# Altium footprint library MZBT_PcpLibrary.PcbLib: 144 footprints (part 7 of 9)
Each footprint in its own frame and in the unit in brackets; x right, y up, seen from the top. Pads: shape width x height; smd on the part's side, far side on the other; paste and mask are expansions set on the pad; w line width, h text height; cw(c..) or ccw(c..) is an arc to the next point about the centre after c.
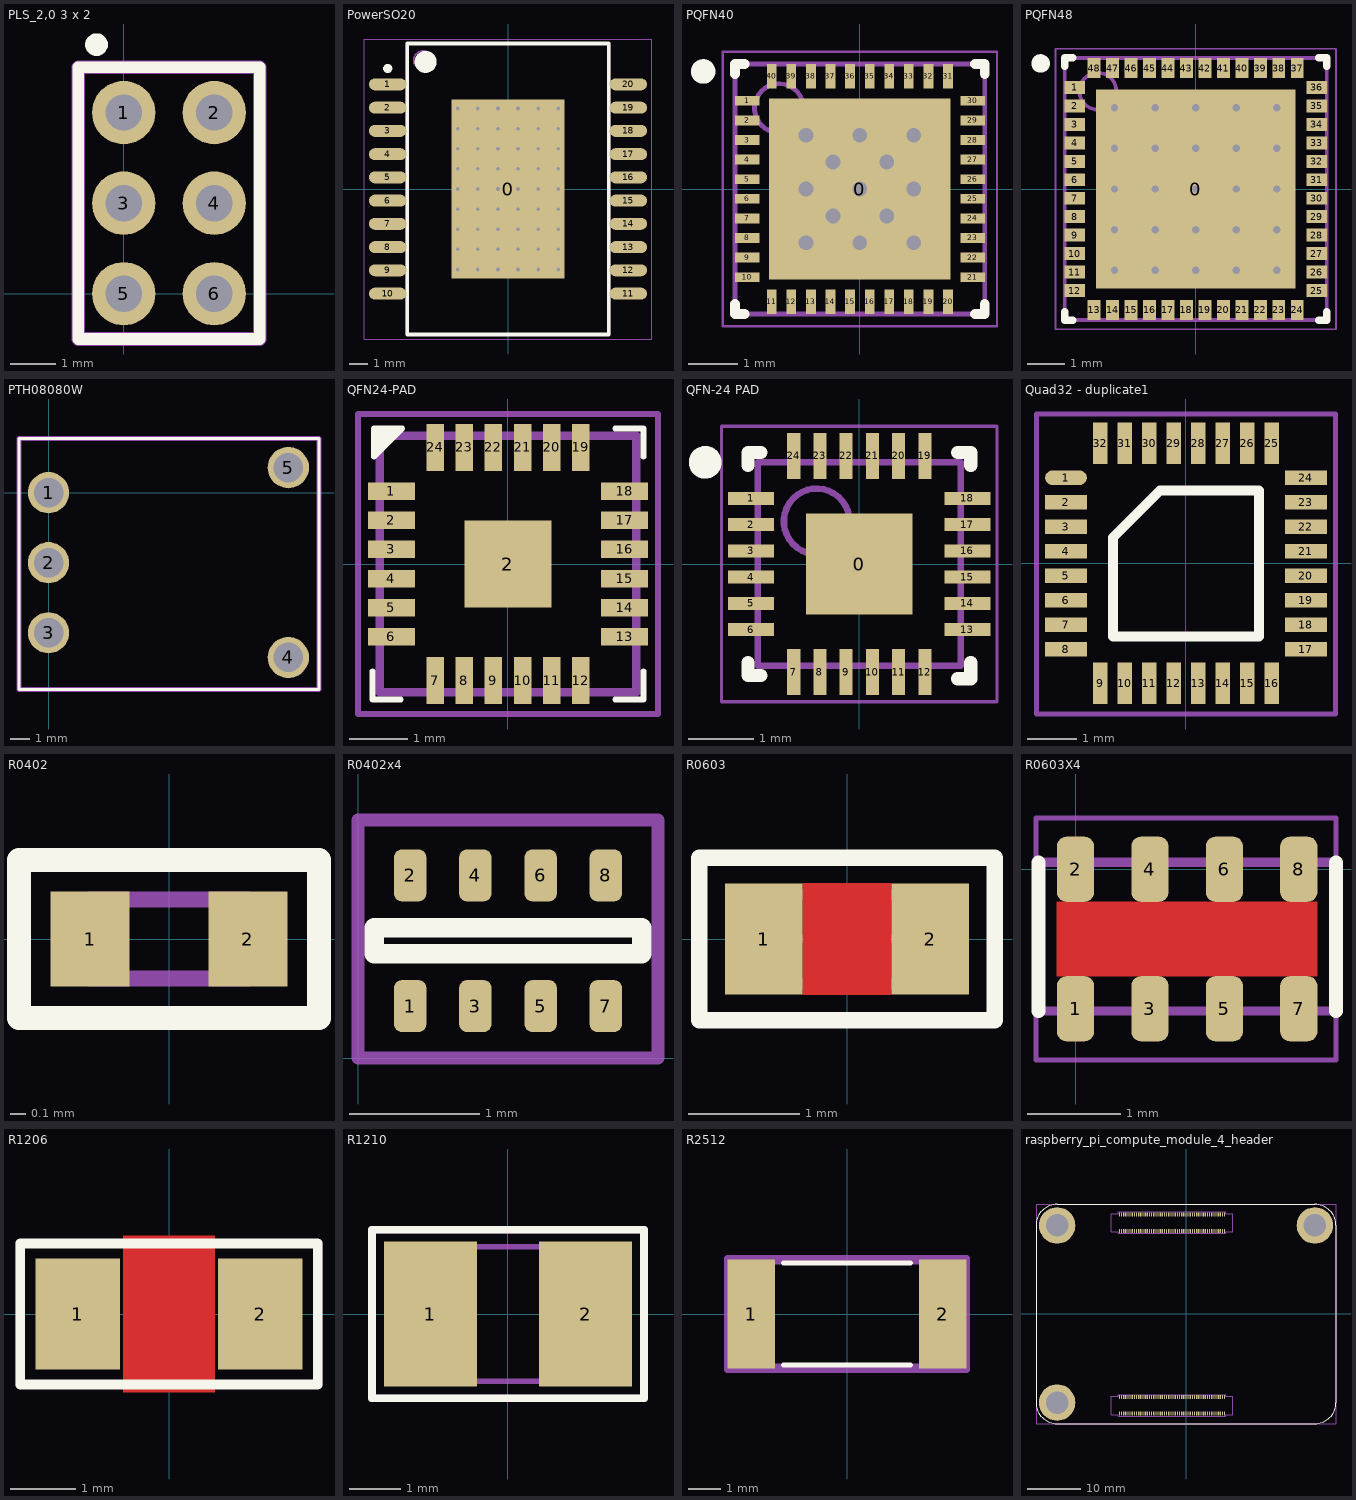
[diagram p6: the footprints below, top view; thin cyan lines are the x and y axes]

## PLS_2,0 3 x 2 [mm] "2"
pads (6):
  round 1.4 hole 0.8: 1(0,4) 2(2,4) 3(0,2) 4(2,2) 5(0,0) 6(2,0)
Top Overlay:
  circle w0.25: c-0.6,5.5 r0.125
  lines w0.254: -1,-1 -1,5 3,5 3,-1 -1,-1
Top Comment:
  text ".Comment" at 0.139,1.626 h0.6
Top Designator (Mech9):
  text ".Designator" at -0.376,2.143 h0.8
Top Courtyard:
  lines w0.3: -1,-1 -1,5 3,5 3,-1 -1,-1

## PowerSO20 [mm] "SO20, 20-Leads, Body 15,70x11,00mm, Pitch 1,27mm, Thermal Pad 9,80x6,20mm, IPC Medium Density"
height 3.6
pads (21):
  rect 6.2x9.8 smd: 0(0,0)
  oval 2.05x0.65 smd: 1(-6.575,5.715) 2(-6.575,4.445) 3(-6.575,3.175) 4(-6.575,1.905) 5(-6.575,0.635) 6(-6.575,-0.635) 7(-6.575,-1.905) 8(-6.575,-3.175) 9(-6.575,-4.445) 10(-6.575,-5.715) 11(6.575,-5.715) 12(6.575,-4.445) 13(6.575,-3.175) 14(6.575,-1.905) 15(6.575,-0.635) 16(6.575,0.635) 17(6.575,1.905) 18(6.575,3.175) 19(6.575,4.445) 20(6.575,5.715)
via 2.75,-4.4 diameter 0.5 hole 0.2
via 1.65,-4.4 diameter 0.5 hole 0.2
via 0.55,-4.4 diameter 0.5 hole 0.2
via -0.55,-4.4 diameter 0.5 hole 0.2
via -1.65,-4.4 diameter 0.5 hole 0.2
via -2.75,-4.4 diameter 0.5 hole 0.2
via 2.75,-3.3 diameter 0.5 hole 0.2
via 1.65,-3.3 diameter 0.5 hole 0.2
via 0.55,-3.3 diameter 0.5 hole 0.2
via -0.55,-3.3 diameter 0.5 hole 0.2
via -1.65,-3.3 diameter 0.5 hole 0.2
via -2.75,-3.3 diameter 0.5 hole 0.2
via 2.75,-2.2 diameter 0.5 hole 0.2
via 1.65,-2.2 diameter 0.5 hole 0.2
via 0.55,-2.2 diameter 0.5 hole 0.2
via -0.55,-2.2 diameter 0.5 hole 0.2
via -1.65,-2.2 diameter 0.5 hole 0.2
via -2.75,-2.2 diameter 0.5 hole 0.2
via 2.75,-1.1 diameter 0.5 hole 0.2
via 1.65,-1.1 diameter 0.5 hole 0.2
via 0.55,-1.1 diameter 0.5 hole 0.2
via -0.55,-1.1 diameter 0.5 hole 0.2
via -1.65,-1.1 diameter 0.5 hole 0.2
via -2.75,-1.1 diameter 0.5 hole 0.2
via 2.75,0 diameter 0.5 hole 0.2
via 1.65,0 diameter 0.5 hole 0.2
via 0.55,0 diameter 0.5 hole 0.2
via -0.55,0 diameter 0.5 hole 0.2
via -1.65,0 diameter 0.5 hole 0.2
via -2.75,0 diameter 0.5 hole 0.2
via 2.75,1.1 diameter 0.5 hole 0.2
via 1.65,1.1 diameter 0.5 hole 0.2
via 0.55,1.1 diameter 0.5 hole 0.2
via -0.55,1.1 diameter 0.5 hole 0.2
via -1.65,1.1 diameter 0.5 hole 0.2
via -2.75,1.1 diameter 0.5 hole 0.2
via 2.75,2.2 diameter 0.5 hole 0.2
via 1.65,2.2 diameter 0.5 hole 0.2
via 0.55,2.2 diameter 0.5 hole 0.2
via -0.55,2.2 diameter 0.5 hole 0.2
via -1.65,2.2 diameter 0.5 hole 0.2
via -2.75,2.2 diameter 0.5 hole 0.2
via 2.75,3.3 diameter 0.5 hole 0.2
via 1.65,3.3 diameter 0.5 hole 0.2
via 0.55,3.3 diameter 0.5 hole 0.2
via -0.55,3.3 diameter 0.5 hole 0.2
via -1.65,3.3 diameter 0.5 hole 0.2
via -2.75,3.3 diameter 0.5 hole 0.2
via 2.75,4.4 diameter 0.5 hole 0.2
via 1.65,4.4 diameter 0.5 hole 0.2
via 0.55,4.4 diameter 0.5 hole 0.2
via -0.55,4.4 diameter 0.5 hole 0.2
via -1.65,4.4 diameter 0.5 hole 0.2
via -2.75,4.4 diameter 0.5 hole 0.2
Top Overlay:
  circle w0.6: c-4.5,6.95 r0.3
  circle w0.25: c-6.575,6.59 r0.125
  lines w0.2: -5.5,-7.95 5.5,-7.95 5.5,7.95 -5.5,7.95 -5.5,-7.95
Top 3D Body (Mech13):
  circle w0.1: c-4.65,7.05 r0.5
  lines w0.1: -5.55,-7.95 5.55,-7.95 5.55,7.95 -5.55,7.95 -5.55,-7.95
Top Courtyard:
  lines w0.05: -7.85,-8.2 7.85,-8.2 7.85,8.2 -7.85,8.2 -7.85,-8.2
  lines w0.1: -0.5,0 0.5,0 ; 0,-0.5 0,0.5
3D body "User Library-PowerSO20.STEP": height 3.6, standoff 0, extent -7.2,-8 7.2,8

## PQFN40 [mm] "PQFN, 40-Leads, Body 5,00x5,00mm, Pitch 0,40mm, Thermal Pad 3,70x3,70mm, IPC Medium Density"
height 0.8
pads (41):
  rect 3.7x3.7 smd: 0(0,0)
  rect 0.5x0.2 smd: 1(-2.3,1.8) 2(-2.3,1.4) 3(-2.3,1) 4(-2.3,0.6) 5(-2.3,0.2) 6(-2.3,-0.2) 7(-2.3,-0.6) 8(-2.3,-1) 9(-2.3,-1.4) 10(-2.3,-1.8) 21(2.3,-1.8) 22(2.3,-1.4) 23(2.3,-1) 24(2.3,-0.6) 25(2.3,-0.2) 26(2.3,0.2) 27(2.3,0.6) 28(2.3,1) 29(2.3,1.4) 30(2.3,1.8)
  rect 0.2x0.5 smd: 11(-1.8,-2.3) 12(-1.4,-2.3) 13(-1,-2.3) 14(-0.6,-2.3) 15(-0.2,-2.3) 16(0.2,-2.3) 17(0.6,-2.3) 18(1,-2.3) 19(1.4,-2.3) 20(1.8,-2.3) 31(1.8,2.3) 32(1.4,2.3) 33(1,2.3) 34(0.6,2.3) 35(0.2,2.3) 36(-0.2,2.3) 37(-0.6,2.3) 38(-1,2.3) 39(-1.4,2.3) 40(-1.8,2.3)
via 1.1,-1.1 diameter 0.6 hole 0.3
via 0,-1.1 diameter 0.6 hole 0.3
via -1.1,-1.1 diameter 0.6 hole 0.3
via 1.1,0 diameter 0.6 hole 0.3
via 0,0 diameter 0.6 hole 0.3
via -1.1,0 diameter 0.6 hole 0.3
via 1.1,1.1 diameter 0.6 hole 0.3
via 0,1.1 diameter 0.6 hole 0.3
via -1.1,1.1 diameter 0.6 hole 0.3
via -0.55,0.55 diameter 0.6 hole 0.3
via 0.55,0.55 diameter 0.6 hole 0.3
via 0.55,-0.55 diameter 0.6 hole 0.3
via -0.55,-0.55 diameter 0.6 hole 0.3
Top Overlay:
  circle w0.25: c-3.2,2.4 r0.125
  lines w0.2: -2.55,-2.35 -2.55,-2.55 -2.35,-2.55 ; -2.55,2.35 -2.55,2.55 -2.35,2.55 ; 2.35,-2.55 2.55,-2.55 2.55,-2.35 ; 2.35,2.55 2.55,2.55 2.55,2.35
Top Comment:
  text ".Comment" at -2.189,-0.952 h1.52
Top Designator (Mech9):
  text ".Designator" at -2.972,0.28 h1.52
Top 3D Body (Mech13):
  circle w0.1: c-1.65,1.65 r0.5
  lines w0.1: -2.55,-2.55 2.55,-2.55 2.55,2.55 -2.55,2.55 -2.55,-2.55
Top Courtyard:
  lines w0.05: -2.8,-2.8 2.8,-2.8 2.8,2.8 -2.8,2.8 -2.8,-2.8
  lines w0.1: -0.5,0 0.5,0 ; 0,-0.5 0,0.5
3D body: height 0.8, standoff 0, extent -2.55,-2.55 2.55,2.55

## PQFN48 [mm] "PQFN, 48-Leads, Body 7,00x7,00mm, Pitch 0,50mm, Thermal Pad 5,40x5,40mm, IPC Medium Density"
height 0.8
pads (49):
  rect 5.4x5.4 smd: 0(0,0)
  rect 0.55x0.35 smd: 1(-3.275,2.75) 2(-3.275,2.25) 3(-3.275,1.75) 4(-3.275,1.25) 5(-3.275,0.75) 6(-3.275,0.25) 7(-3.275,-0.25) 8(-3.275,-0.75) 9(-3.275,-1.25) 10(-3.275,-1.75) 11(-3.275,-2.25) 12(-3.275,-2.75) 25(3.275,-2.75) 26(3.275,-2.25) 27(3.275,-1.75) 28(3.275,-1.25) 29(3.275,-0.75) 30(3.275,-0.25) 31(3.275,0.25) 32(3.275,0.75) 33(3.275,1.25) 34(3.275,1.75) 35(3.275,2.25) 36(3.275,2.75)
  rect 0.35x0.55 smd: 13(-2.75,-3.275) 14(-2.25,-3.275) 15(-1.75,-3.275) 16(-1.25,-3.275) 17(-0.75,-3.275) 18(-0.25,-3.275) 19(0.25,-3.275) 20(0.75,-3.275) 21(1.25,-3.275) 22(1.75,-3.275) 23(2.25,-3.275) 24(2.75,-3.275) 37(2.75,3.275) 38(2.25,3.275) 39(1.75,3.275) 40(1.25,3.275) 41(0.75,3.275) 42(0.25,3.275) 43(-0.25,3.275) 44(-0.75,3.275) 45(-1.25,3.275) 46(-1.75,3.275) 47(-2.25,3.275) 48(-2.75,3.275)
via -2.2,2.2 diameter 0.5 hole 0.2
via -1.1,2.2 diameter 0.5 hole 0.2
via 0,2.2 diameter 0.5 hole 0.2
via 1.1,2.2 diameter 0.5 hole 0.2
via 2.2,2.2 diameter 0.5 hole 0.2
via -2.2,1.1 diameter 0.5 hole 0.2
via -1.1,1.1 diameter 0.5 hole 0.2
via 0,1.1 diameter 0.5 hole 0.2
via 1.1,1.1 diameter 0.5 hole 0.2
via 2.2,1.1 diameter 0.5 hole 0.2
via -2.2,0 diameter 0.5 hole 0.2
via -1.1,0 diameter 0.5 hole 0.2
via 0,0 diameter 0.5 hole 0.2
via 1.1,0 diameter 0.5 hole 0.2
via 2.2,0 diameter 0.5 hole 0.2
via -2.2,-1.1 diameter 0.5 hole 0.2
via -1.1,-1.1 diameter 0.5 hole 0.2
via 0,-1.1 diameter 0.5 hole 0.2
via 1.1,-1.1 diameter 0.5 hole 0.2
via 2.2,-1.1 diameter 0.5 hole 0.2
via -2.2,-2.2 diameter 0.5 hole 0.2
via -1.1,-2.2 diameter 0.5 hole 0.2
via 0,-2.2 diameter 0.5 hole 0.2
via 1.1,-2.2 diameter 0.5 hole 0.2
via 2.2,-2.2 diameter 0.5 hole 0.2
Top Overlay:
  circle w0.25: c-4.2,3.4 r0.125
  lines w0.2: -3.55,-3.325 -3.55,-3.55 -3.325,-3.55 ; -3.55,3.325 -3.55,3.55 -3.325,3.55 ; 3.325,-3.55 3.55,-3.55 3.55,-3.325 ; 3.325,3.55 3.55,3.55 3.55,3.325
Top Comment:
  text ".Comment" at -2.189,-0.952 h1.52
Top Designator (Mech9):
  text ".Designator" at -2.972,0.28 h1.52
Top 3D Body (Mech13):
  circle w0.1: c-2.65,2.65 r0.5
  lines w0.1: -3.55,-3.55 -3.55,3.55 3.55,3.55 3.55,-3.55 -3.55,-3.55
Top Courtyard:
  lines w0.05: -3.8,-3.8 -3.8,3.8 3.8,3.8 3.8,-3.8 -3.8,-3.8
  lines w0.1: -0.5,0 0.5,0 ; 0,-0.5 0,0.5
3D body: height 0.8, standoff 0, extent -3.55,-3.55 3.55,3.55

## PTH08080W [mm]
pads (5):
  round 2.1 hole 1.5 mask+0: 1(0,0) 2(0,-3.56) 3(0,-7.12) 4(12.19,-8.375) 5(12.19,1.275)
Top Overlay:
  lines w0.15: -1.5,-10 13.75,-10 13.75,2.75 -1.5,2.75 -1.5,-10
Top Comment:
  text ".Comment" at 4.111,-4.452 h1.52
Top Designator (Mech9):
  text ".Designator" at 3.683,-3.228 h1.52
Top Component Outline:
  lines w0.254: -1.5,-10 -1.5,2.75 13.75,2.75 13.75,-10 -1.5,-10
Top Courtyard:
  lines w0.05: -1.5,-10 -1.5,2.75 13.75,2.75 13.75,-10 -1.5,-10
3D body "PTH08080W.STEP": height 8.2, standoff -3.53, extent -1.59,-9.925 13.65,2.775

## QFN24-PAD [mm] "QFN 24Pin"
pads (25):
  rect 0.8x0.3 smd: 1(-2,1.25) 2(-2,0.75) 3(-2,0.25) 4(-2,-0.25) 5(-2,-0.75) 6(-2,-1.25) 13(2,-1.25) 14(2,-0.75) 15(2,-0.25) 16(2,0.25) 17(2,0.75) 18(2,1.25)
  rect 1.5x1.5 smd: 2(0,0)
  rect 0.3x0.8 smd: 7(-1.25,-2) 8(-0.75,-2) 9(-0.25,-2) 10(0.25,-2) 11(0.75,-2) 12(1.25,-2) 19(1.25,2) 20(0.75,2) 21(0.25,2) 22(-0.25,2) 23(-0.75,2) 24(-1.25,2)
Top Overlay:
  region: -2.3,2.325 -1.815,2.325 -2.3,1.84
  lines w0.1: -2.325,-1.84 -2.325,-2.325 -1.84,-2.325 ; 1.84,-2.325 2.325,-2.325 2.325,-1.84 ; 1.84,2.325 2.325,2.325 2.325,1.84 ; -2.3,1.84 -1.815,2.325 -2.3,2.325 -2.3,1.84
Top Court:
  lines w0.15: -2.2,-2.2 2.2,-2.2 2.2,2.2 -2.2,2.2 -2.2,-2.2
Top Comment:
  text ".Comment" at -0.861,-0.374 h0.6
Top Designator (Mech9):
  text ".Designator" at -1.376,0.143 h0.8
Top Courtyard:
  lines w0.102: -2.575,-2.575 2.575,-2.575 2.575,2.575 -2.575,2.575 -2.575,-2.575
3D body "User Library-QFN24_4x4x0_75_p0_5.STEP": height 0.75, standoff 0, extent -2.002,-2.002 2.002,2.002

## QFN-24 PAD [mm] "QFN, 24-Leads, Body 3,00x3,00mm, Pitch 0,40mm, Thermal Pad 1,62x1,54mm"
height 1.05
pads (25):
  rect 1.62x1.54 smd: 0(0,0)
  rect 0.7x0.2 smd: 1(-1.65,1) 2(-1.65,0.6) 3(-1.65,0.2) 4(-1.65,-0.2) 5(-1.65,-0.6) 6(-1.65,-1) 13(1.65,-1) 14(1.65,-0.6) 15(1.65,-0.2) 16(1.65,0.2) 17(1.65,0.6) 18(1.65,1)
  rect 0.2x0.7 smd: 7(-1,-1.65) 8(-0.6,-1.65) 9(-0.2,-1.65) 10(0.2,-1.65) 11(0.6,-1.65) 12(1,-1.65) 19(1,1.65) 20(0.6,1.65) 21(0.2,1.65) 22(-0.2,1.65) 23(-0.6,1.65) 24(-1,1.65)
Top Overlay:
  circle w0.25: c-2.35,1.55 r0.125
  lines w0.2: -1.7,-1.5 -1.7,-1.7 -1.5,-1.7 ; -1.7,1.5 -1.7,1.7 -1.5,1.7 ; 1.5,-1.75 1.7,-1.75 ; 1.5,1.7 1.7,1.7 1.7,1.5 ; 1.7,-1.7 1.7,-1.5
Top Comment:
  text ".Comment" at -0.861,-0.374 h0.6
Top Designator (Mech9):
  text ".Designator" at -1.376,0.143 h0.8
Top 3D Body (Mech13):
  circle w0.1: c-0.65,0.65 r0.5
  lines w0.1: -1.55,-1.55 -1.55,1.55 1.55,1.55 1.55,-1.55 -1.55,-1.55
Top Courtyard:
  lines w0.05: -2.1,-2.1 -2.1,2.1 2.1,2.1 2.1,-2.1 -2.1,-2.1
  lines w0.1: -0.5,0 0.5,0 ; 0,-0.5 0,0.5
3D body: height 1.05, standoff 0, extent -1.55,-1.55 1.55,1.55

## Quad32 - duplicate1 [mm]
pads (32):
  oval 0.85x0.3 smd: 1(-2.45,1.75)
  rect 0.85x0.3 smd: 2(-2.45,1.25) 3(-2.45,0.75) 4(-2.45,0.25) 5(-2.45,-0.25) 6(-2.45,-0.75) 7(-2.45,-1.25) 8(-2.45,-1.75) 17(2.45,-1.75) 18(2.45,-1.25) 19(2.45,-0.75) 20(2.45,-0.25) 21(2.45,0.25) 22(2.45,0.75) 23(2.45,1.25) 24(2.45,1.75)
  rect 0.3x0.85 smd: 9(-1.75,-2.45) 10(-1.25,-2.45) 11(-0.75,-2.45) 12(-0.25,-2.45) 13(0.25,-2.45) 14(0.75,-2.45) 15(1.25,-2.45) 16(1.75,-2.45) 25(1.75,2.45) 26(1.25,2.45) 27(0.75,2.45) 28(0.25,2.45) 29(-0.25,2.45) 30(-0.75,2.45) 31(-1.25,2.45) 32(-1.75,2.45)
Top Overlay:
  lines w0.2: -1.49,-1.49 -1.49,0.53 -0.53,1.49 1.49,1.49 1.49,-1.49 -1.49,-1.49
Top Comment:
  text ".Comment" at -0.861,-0.374 h0.6
Top Designator (Mech9):
  text ".Designator" at -1.376,0.143 h0.8
Top Courtyard:
  lines w0.102: -3.05,-3.075 3.05,-3.075 3.05,3.05 -3.05,3.05 -3.05,-3.075

## R0402 [mm]
height 0.35
pads (2):
  rect 0.5x0.6 smd: 1(-0.5,0) 2(0.5,0)
Top Overlay:
  lines w0.15: -0.95,-0.5 -0.95,0.5 0.95,0.5 0.95,-0.5 -0.95,-0.5
Top Comment:
  text ".Comment" at -0.861,-0.374 h0.6
Top Designator (Mech9):
  text ".Designator" at -1.376,0.143 h0.8
Top Component Outline:
  lines w0.1: -0.5,-0.25 0.5,-0.25 0.5,0.25 -0.5,0.25 -0.5,-0.25
Top Courtyard:
  lines w0.1: -0.95,-0.498 0.95,-0.498 0.95,0.498 -0.95,0.498 -0.95,-0.498
3D body "User Library-User Library-res0402_res0402_body.step": height 0.36, standoff 0, extent -0.495,-0.229 0.495,0.279

## R0402x4 [mm]
height 0.55
pads (8):
  rrect50% 0.25x0.4 smd: 1(0.4,0.398) 2(0.4,1.4) 3(0.9,0.398) 4(0.9,1.4) 5(1.4,0.398) 6(1.4,1.4) 7(1.9,0.398) 8(1.9,1.4)
Top Overlay:
  lines w0.15: 0.125,0.8 0.125,1 2.175,1 2.175,0.8 0.125,0.8
Top Comment:
  text ".Comment" at 0.314,0.501 h0.6
Top Designator (Mech9):
  text ".Designator" at -0.201,1.018 h0.8
Top Component Outline:
  lines w0.1: 0,0 2.3,0 2.3,1.825 0,1.825 0,0
3D body "User Library-741C083.step": height 0.35, standoff -0.03, extent 0.15,0.398 2.15,1.402

## R0603 [mm]
height 0.45
pads (2):
  rect 0.7x1 smd: 1(-0.75,0) 2(0.75,0)
Top Layer:
  pour cut-out: -0.4,0.5 0.4,0.5 0.4,-0.5 -0.4,-0.5
Top Overlay:
  lines w0.15: -1.33,-0.73 1.33,-0.73 1.33,0.73 -1.33,0.73 -1.33,-0.73
Top Comment:
  text ".Comment" at -0.861,-0.374 h0.6
Top Designator (Mech9):
  text ".Designator" at -1.376,0.143 h0.8
Top Component Outline:
  lines w0.1: -0.85,-0.4 -0.85,0.4 0.75,0.4 0.75,-0.4 -0.85,-0.4
Top Courtyard:
  lines w0.05: -1.35,-0.75 -1.35,0.75 1.35,0.75 1.35,-0.75 -1.35,-0.75
  lines w0.1: -0.375,0 0.375,0 ; 0,-0.375 0,0.375
3D body "RESC1608.STEP": height 0.5, standoff 0, extent -0.85,-0.4 0.75,0.4

## R0603X4 [mm]
height 0.55
pads (8):
  rrect50% 0.4x0.7 smd: 1(0,-1.5) 2(0,0) 3(0.8,-1.5) 4(0.8,0) 5(1.6,-1.5) 6(1.6,0) 7(2.4,-1.5) 8(2.4,0)
Top Layer:
  pour cut-out: 2.6,-0.35 2.6,-1.15 -0.2,-1.15 -0.2,-0.35
Top Overlay:
  lines w0.15: -0.4,-1.525 -0.4,0.075 ; 2.8,-1.525 2.8,0.075
Top Comment:
  text ".Comment" at 0.339,-1.174 h0.6
Top Designator (Mech9):
  text ".Designator" at -0.176,-0.657 h0.8
Top Component Outline:
  lines w0.05: 0,-1.025 0,-0.925 ; 0,-0.575 0,-0.475 ; 0.8,-1.025 0.8,-0.925 ; 0.8,-0.575 0.8,-0.475 ; 1.6,-1.025 1.6,-0.925 ; 1.6,-0.575 1.6,-0.475 ; 2.425,-1.025 2.425,-0.925 ; 2.425,-0.575 2.425,-0.475 ; -0.1,-0.925 -0.1,-0.575 0.1,-0.575 0.1,-0.925 -0.1,-0.925 ; 0.7,-0.925 0.7,-0.575 0.9,-0.575 0.9,-0.925 0.7,-0.925 ; 1.5,-0.925 1.5,-0.575 1.7,-0.575 1.7,-0.925 1.5,-0.925 ; 2.325,-0.925 2.325,-0.575 2.525,-0.575 2.525,-0.925 2.325,-0.925
  lines w0.1: -0.4,-1.525 -0.4,0.075 2.8,0.075 2.8,-1.525 -0.4,-1.525
Top Courtyard:
  lines w0.05: -0.425,-2.05 2.8,-2.05 2.8,0.55 -0.425,0.55 -0.425,-2.05
3D body "R0603x4.STEP": height 0.5, standoff 0, extent -0.387,-1.512 2.813,0.088

## R1206 [mm]
height 0.55
pads (2):
  rect 1.3x1.7 smd: 1(-1.4,0) 2(1.4,0)
Top Layer:
  pour cut-out: -0.7,1.2 -0.7,-1.2 0.7,-1.2 0.7,1.2
Top Overlay:
  lines w0.15: -2.28,-1.08 -2.28,1.08 2.28,1.08 2.28,-1.08 -2.28,-1.08
Top Comment:
  text ".Comment" at -0.861,-0.374 h0.6
Top Designator (Mech9):
  text ".Designator" at -1.376,0.143 h0.8
Top Component Outline:
  lines w0.1: -2.3,-1.1 2.3,-1.1 2.3,1.1 -2.3,1.1 -2.3,-1.1
3D body "User Library-Resistor SMD 1206.step": height 1.11, standoff -0.01, extent -1.6,-0.81 1.6,0.81

## R1210 [mm]
height 0.55
pads (2):
  rect 1.8x2.8 smd: 1(-1.5,0) 2(1.5,0)
Top Overlay:
  lines w0.15: -2.63,-1.63 -2.63,1.63 2.63,1.63 2.63,-1.63 -2.63,-1.63
Top Court:
  lines w0.1: -1.55,-1.3 -1.55,1.3 1.55,1.3 1.55,-1.3 -1.55,-1.3
Top Designator:
Top Comment:
  text ".Comment" at -2.189,-0.952 h1.52
Top Designator (Mech9):
  text ".Designator" at -2.617,0.272 h1.52
Top Courtyard:
  lines w0.15: -2.63,-1.63 -2.63,1.63 2.63,1.63 2.63,-1.63 -2.63,-1.63
3D body "User Library-R_1210.step": height 0.6, standoff 0, extent -1.6,-1.25 1.6,1.25

## R2512 [mm]
height 0.55
pads (2):
  rect 1.5x3.4 smd: 1(-3,0) 2(3,0)
Top Overlay:
  lines w0.15: -2,-1.6 2,-1.6 ; -2,1.6 2,1.6
Top Comment:
  text ".Comment" at -2.189,-0.952 h1.52
Top Designator (Mech9):
  text ".Designator" at -2.617,0.272 h1.52
Top Component Outline:
  lines w0.1: -3.175,-1.6 -3.175,1.6 3.175,1.6 3.175,-1.6 -3.175,-1.6
  lines w0.2: -3.75,-1.75 -3.75,1.75 3.75,1.75 3.75,-1.75 -3.75,-1.75
3D body "User Library-R SMD 2512.STEP": height 0.82, standoff 0.22, extent -3.231,-1.55 3.069,1.6

## raspberry_pi_compute_module_4_header [mil]
pads (203):
  rect 9x28 smd paste+0: 1(283.17,730.65) 2(283.17,609.39) 3(267.42,730.65) 4(267.42,609.39) 5(251.67,730.65) 6(251.67,609.39) 7(235.92,730.65) 8(235.92,609.39) 9(220.17,730.65) 10(220.17,609.39) 11(204.43,730.65) 12(204.43,609.39) 13(188.68,730.65) 14(188.68,609.39) 15(172.93,730.65) 16(172.93,609.39) 17(157.18,730.65) 18(157.18,609.39) 19(141.43,730.65) 20(141.43,609.39) 21(125.69,730.65) 22(125.69,609.39) 23(109.94,730.65) 24(109.94,609.39) 25(94.19,730.65) 26(94.19,609.39) 27(78.44,730.65) 28(78.44,609.39) 29(62.69,730.65) 30(62.69,609.39) 31(46.95,730.65) 32(46.95,609.39) 33(31.2,730.65) 34(31.2,609.39) 35(15.45,730.65) 36(15.45,609.39) 37(-0.3,730.65) 38(-0.3,609.39) 39(-16.05,730.65) 40(-16.05,609.39) 41(-31.79,730.65) 42(-31.79,609.39) 43(-47.54,730.65) 44(-47.54,609.39) 45(-63.29,730.65) 46(-63.29,609.39) 47(-79.04,730.65) 48(-79.04,609.39) 49(-94.79,730.65) 50(-94.79,609.39) 51(-110.53,730.65) 52(-110.53,609.39) 53(-126.28,730.65) 54(-126.28,609.39) 55(-142.03,730.65) 56(-142.03,609.39) 57(-157.78,730.65) 58(-157.78,609.39) 59(-173.53,730.65) 60(-173.53,609.39) 61(-189.27,730.65) 62(-189.27,609.39) 63(-205.02,730.65) 64(-205.02,609.39) 65(-220.77,730.65) 66(-220.77,609.39) 67(-236.52,730.65) 68(-236.52,609.39) 69(-252.27,730.65) 70(-252.27,609.39) 71(-268.01,730.65) 72(-268.01,609.39) 73(-283.76,730.65) 74(-283.76,609.39) 75(-299.51,730.65) 76(-299.51,609.39) 77(-315.26,730.65) 78(-315.26,609.39) 79(-331.01,730.65) 80(-331.01,609.39) 81(-346.75,730.65) 82(-346.75,609.39) 83(-362.5,730.65) 84(-362.5,609.39) 85(-378.25,730.65) 86(-378.25,609.39) 87(-394,730.65) 88(-394,609.39) 89(-409.75,730.65) 90(-409.75,609.39) 91(-425.49,730.65) 92(-425.49,609.39) 93(-441.24,730.65) 94(-441.24,609.39) 95(-456.99,730.65) 96(-456.99,609.39) 97(-472.74,730.65) 98(-472.74,609.39) 99(-488.49,730.65) 100(-488.49,609.39) 101(283.17,-609.39) 102(283.17,-730.65) 103(267.42,-609.39) 104(267.42,-730.65) 105(251.67,-609.39) 106(251.67,-730.65) 107(235.92,-609.39) 108(235.92,-730.65) 109(220.17,-609.39) 110(220.17,-730.65) 111(204.43,-609.39) 112(204.43,-730.65) 113(188.68,-609.39) 114(188.68,-730.65) 115(172.93,-609.39) 116(172.93,-730.65) 117(157.18,-609.39) 118(157.18,-730.65) 119(141.43,-609.39) 120(141.43,-730.65) 121(125.69,-609.39) 122(125.69,-730.65) 123(109.94,-609.39) 124(109.94,-730.65) 125(94.19,-609.39) 126(94.19,-730.65) 127(78.44,-609.39) 128(78.44,-730.65) 129(62.69,-609.39) 130(62.69,-730.65) 131(46.95,-609.39) 132(46.95,-730.65) 133(31.2,-609.39) 134(31.2,-730.65) 135(15.45,-609.39) 136(15.45,-730.65) 137(-0.3,-609.39) 138(-0.3,-730.65) 139(-16.05,-609.39) 140(-16.05,-730.65) 141(-31.79,-609.39) 142(-31.79,-730.65) 143(-47.54,-609.39) 144(-47.54,-730.65) 145(-63.29,-609.39) 146(-63.29,-730.65) 147(-79.04,-609.39) 148(-79.04,-730.65) 149(-94.79,-609.39) 150(-94.79,-730.65) 151(-110.53,-609.39) 152(-110.53,-730.65) 153(-126.28,-609.39) 154(-126.28,-730.65) 155(-142.03,-609.39) 156(-142.03,-730.65) 157(-157.78,-609.39) 158(-157.78,-730.65) 159(-173.53,-609.39) 160(-173.53,-730.65) 161(-189.27,-609.39) 162(-189.27,-730.65) 163(-205.02,-609.39) 164(-205.02,-730.65) 165(-220.77,-609.39) 166(-220.77,-730.65) 167(-236.52,-609.39) 168(-236.52,-730.65) 169(-252.27,-609.39) 170(-252.27,-730.65) 171(-268.01,-609.39) 172(-268.01,-730.65) 173(-283.76,-609.39) 174(-283.76,-730.65) 175(-299.51,-609.39) 176(-299.51,-730.65) 177(-315.26,-609.39) 178(-315.26,-730.65) 179(-331.01,-609.39) 180(-331.01,-730.65) 181(-346.75,-609.39) 182(-346.75,-730.65) 183(-362.5,-609.39) 184(-362.5,-730.65) 185(-378.25,-609.39) 186(-378.25,-730.65) 187(-394,-609.39) 188(-394,-730.65) 189(-409.75,-609.39) 190(-409.75,-730.65) 191(-425.49,-609.39) 192(-425.49,-730.65) 193(-441.24,-609.39) 194(-441.24,-730.65) 195(-456.99,-609.39) 196(-456.99,-730.65) 197(-472.74,-609.39) 198(-472.74,-730.65) 199(-488.49,-609.39) 200(-488.49,-730.65)
  round 267.72 hole 165.35: ""(-944.88,-649.25) ""(-944.88,649.25) ""(944.88,649.25)
Top Overlay:
  lines w7.87: -1099.77,-649.26 ccw(c-944.89,-649.26) -944.89,-804.14 944.89,-804.14 ccw(c944.89,-649.26) 1099.77,-649.25 1099.77,649.25 ccw(c944.88,649.25) 944.88,804.13 -944.89,804.13 ccw(c-944.89,649.25) -1099.77,649.25 -1099.77,-649.26
Top Comment:
  text ".Comment" at -100.85,-57.85 h59.06
Top Designator (Mech9):
  text ".Designator" at -115.32,27.28 h59.06
Top Component Outline:
  lines w3.94: -1099.49,-804.13 1099.77,-804.13 1099.77,804.13 -1099.49,804.13 -1099.49,-804.13 ; -548.13,-737.23 -498.11,-737.23 -498.11,-748.5 292.25,-748.5 292.25,-737.23 341.63,-737.23 341.63,-604.15 292.25,-604.15 292.25,-592.01 -498.11,-592.01 -498.11,-604.15 -548.13,-604.15 -548.13,-670.69 -548.13,-737.23 ; -548.13,602.81 -498.11,602.81 -498.11,591.54 292.25,591.54 292.25,602.81 341.63,602.81 341.63,735.89 292.25,735.89 292.25,748.03 -498.11,748.03 -498.11,735.89 -548.13,735.89 -548.13,669.35 -548.13,602.81
Top Courtyard:
  lines w3.94: -1099.49,-804.13 1099.77,-804.13 1099.77,804.13 -1099.49,804.13 -1099.49,-804.13
3D body "User Library-DF40C-100DP-0_4V(51).step": height 57.09, standoff 0, extent -548.13,-736.56 341.63,-603.48
3D body "User Library-DF40C-100DP-0_4V(51).step": height 57.09, standoff 0, extent -548.13,602.81 341.63,735.89
3D body "SMTSO-M2.5 Гайка для пайки на плату .STEP": height 68.11, standoff -51.18, extent 835.44,539.8 1054.33,758.7
3D body "SMTSO-M2.5 Гайка для пайки на плату .STEP": height 68.11, standoff -51.18, extent -1054.33,-758.7 -835.44,-539.8
3D body "SMTSO-M2.5 Гайка для пайки на плату .STEP": height 68.11, standoff -51.18, extent -1054.33,539.8 -835.44,758.7
3D body "CM5R5-3dsteps.step": height 205.16, standoff 23.23, extent -1082.68,-787.4 1082.68,787.4